# Altium footprint library PcbLibDaniel.PcbLib: 4 footprints
Each footprint in its own frame and in the unit in brackets; x right, y up, seen from the top. Pads: shape width x height; smd on the part's side, far side on the other; paste and mask are expansions set on the pad; w line width, h text height; cw(c..) or ccw(c..) is an arc to the next point about the centre after c.
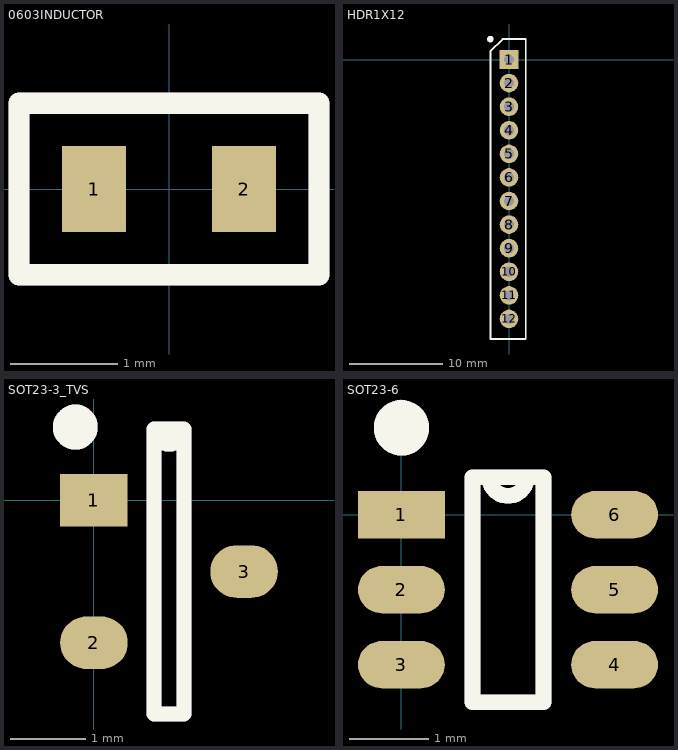
[diagram p0: the footprints below, top view; thin cyan lines are the x and y axes]

## 0603INDUCTOR [mm]
pads (2):
  rect 0.6x0.8 smd: 1(-0.7,0) 2(0.7,0)
Top Overlay:
  lines w0.2: -1.4,-0.8 1.4,-0.8 1.4,0.8 -1.4,0.8 -1.4,-0.8
Mechanical 29:
  lines w0.2: -1.4,-0.8 -1.4,0.8 1.4,0.8 1.4,-0.8 -1.4,-0.8
  text "'.Designator'" at -1.3,-0.5 h1

## HDR1X12 [mm]
pads (12):
  rect 2x2 hole 1.1: 1(0,0)
  round 2 hole 1.1: 2(0,-2.54) 3(0,-5.08) 4(0,-7.62) 5(0,-10.16) 6(0,-12.7) 7(0,-15.24) 8(0,-17.78) 9(0,-20.32) 10(0,-22.86) 11(0,-25.4) 12(0,-27.94)
Top Overlay:
  circle w0.7: c-2.01,2.2 r0.01
  lines w0.2: -2,-30.1 1.8,-30.1 1.8,2.2 -0.7,2.2 -2,0.9 -2,-30.1
Mechanical 29:
  text "'.Designator'" at -1.3,-7.8 h1

## SOT23-3_TVS [mm]
pads (3):
  rect 0.9x0.7 smd: 1(0,0)
  oval 0.9x0.7 smd: 2(0,-1.9) 3(2,-0.95)
Top Overlay:
  circle w0.5: c-0.25,0.975 r0.05
  lines w0.2: 0.8,0.95 ccw(c1,0.95) 1.2,0.95 ; 0.8,0.95 1.2,0.95 ; 0.8,0.95 0.8,-2.85 1.2,-2.85 1.2,0.95
Mechanical 29:
  circle w0.5: c-0.25,0.975 r0.05
  lines w0.2: 0.8,0.95 ccw(c1,0.95) 1.2,0.95 ; 0.8,0.95 0.8,-2.85 1.2,-2.85 1.2,0.95 ; 0.8,0.95 1.2,0.95
  text "'.Designator'" at 0.3,-1.4 h1

## SOT23-6 [mm]
pads (6):
  rect 1.1x0.6 smd: 1(0,0)
  oval 1.1x0.6 smd: 2(0,-0.95) 3(0,-1.9) 4(2.7,-1.9) 5(2.7,-0.95) 6(2.7,0)
Top Overlay:
  circle w0.5: c0,1.1 r0.1
  lines w0.2: 0.9,-2.375 1.8,-2.375 1.8,0.475 1.112,0.475 ccw(c1.35,0.475) 1.587,0.475 0.9,0.475 0.9,-2.375
Mechanical 29:
  circle w0.5: c0,1.1 r0.1
  lines w0.2: 0.9,-2.375 0.9,0.475 1.587,0.475 cw(c1.35,0.475) 1.112,0.475 1.8,0.475 1.8,-2.375 0.9,-2.375
  text "'.Designator'" at 0.2,-1.4 h1
3D body "SOT-23-6.step": height 1.09, standoff 0, extent 0.146,-2.349 2.572,0.445